# EAGLE library part TLV2474AI (library 9_Dynalec)
CMOS Rail-to-Rail Operational Amplifiers The TLV247x is a family of CMOS rail-to-rail input/output operational amplifiers that establishes a new performance point for supply current versus ac performance. These devices consume just 600 μA/channel while offering 2.8 MHz of gain-bandwidth product. Along with increased ac performance, the amplifier provides high output drive capability, solving a major shortcoming of older micropower operational amplifiers. The TLV247x can swing to within 180 mV of each supply rail while driving a 10-mA load. For non-RRO applications, the TLV247x can supply ±35 mA at 500 mV off the rail
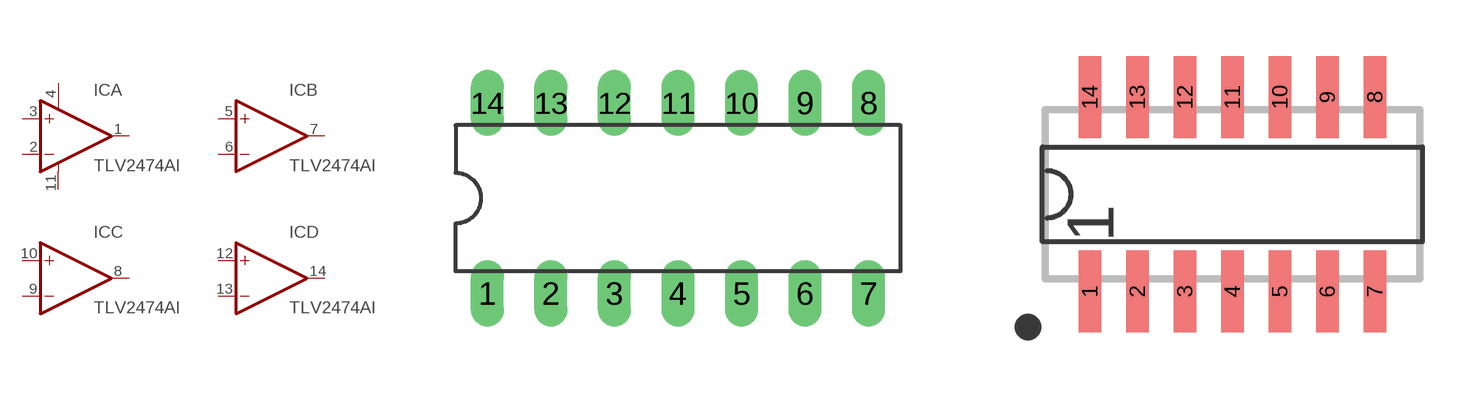
[diagram p6: symbol with the pads of DIL14; footprints DIL14, SOP14]

Designator prefix IC; gates A=OP-AMP+- B=OP-AMP C=OP-AMP D=OP-AMP

## TLV2474AIN (OC_FARNELL: unknown; OC_NEWARK: unknown)  [DIL14]
1  A:OUT  out
2  A:-IN  in
3  A:+IN  in
4  A:V+  pwr
5  B:+IN  in
6  B:-IN  in
7  B:OUT  out
8  C:OUT  out
9  C:-IN  in
10  C:+IN  in
11  A:V-  pwr
12  D:+IN  in
13  D:-IN  in
14  D:OUT  out

## TLV2474AID  [SOP14]
Pads as for DIL14

## Footprint DIL14 (pad centres in mm)
Dual In Line Package
drill 0.813 long: 1 -7.62,-3.81; 2 -5.08,-3.81; 3 -2.54,-3.81; 4 0,-3.81; 5 2.54,-3.81; 6 5.08,-3.81; 7 7.62,-3.81; 8 7.62,3.81; 9 5.08,3.81; 10 2.54,3.81; 11 0,3.81; 12 -2.54,3.81; 13 -5.08,3.81; 14 -7.62,3.81

## Footprint SOP14 (pad centres in mm)
SMALL OUTLINE PACKAGE
smd 0.6 x 2.2: 1 -3.81,-2.6; 2 -2.54,-2.6; 3 -1.27,-2.6; 4 0,-2.6; 5 1.27,-2.6; 6 2.54,-2.6; 7 3.81,-2.6; 8 3.81,2.6; 9 2.54,2.6; 10 1.27,2.6; 11 0,2.6; 12 -1.27,2.6; 13 -2.54,2.6; 14 -3.81,2.6